# EAGLE library part TRS80GS_DECODER (library TMS99)
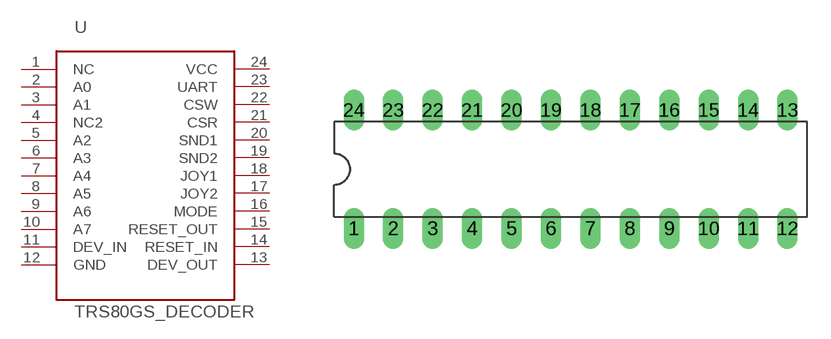
[diagram p9: symbol with the pads of DIP24SKI; footprint DIP24SKI]

Designator prefix -

## TRS80GS_DECODER  [DIP24SKI]
1  NC
2  A0
3  A1
4  NC2
5  A2
6  A3
7  A4
8  A5
9  A6
10  A7
11  DEV_IN
12  GND
13  DEV_OUT
14  RESET_IN
15  RESET_OUT
16  MODE
17  JOY2
18  JOY1
19  SND2
20  SND1
21  CSR
22  CSW
23  UART
24  VCC

## Footprint DIP24SKI (pad centres in mm)
DIP24 chip package
drill 0.813 pad 1.27 long: 1 -11.43,-3.81; 2 -8.89,-3.81; 3 -6.35,-3.81; 4 -3.81,-3.81; 5 -1.27,-3.81; 6 1.27,-3.81; 7 3.81,-3.81; 8 6.35,-3.81; 9 8.89,-3.81; 10 11.43,-3.81; 11 13.97,-3.81; 12 16.51,-3.81; 13 16.51,3.81; 14 13.97,3.81; 15 11.43,3.81; 16 8.89,3.81; 17 6.35,3.81; 18 3.81,3.81; 19 1.27,3.81; 20 -1.27,3.81; 21 -3.81,3.81; 22 -6.35,3.81; 23 -8.89,3.81; 24 -11.43,3.81